# Altium footprint library L-150.PcbLib: 1 footprints
Each footprint in its own frame and in the unit in brackets; x right, y up, seen from the top. Pads: shape width x height; smd on the part's side, far side on the other; paste and mask are expansions set on the pad; w line width, h text height; cw(c..) or ccw(c..) is an arc to the next point about the centre after c.
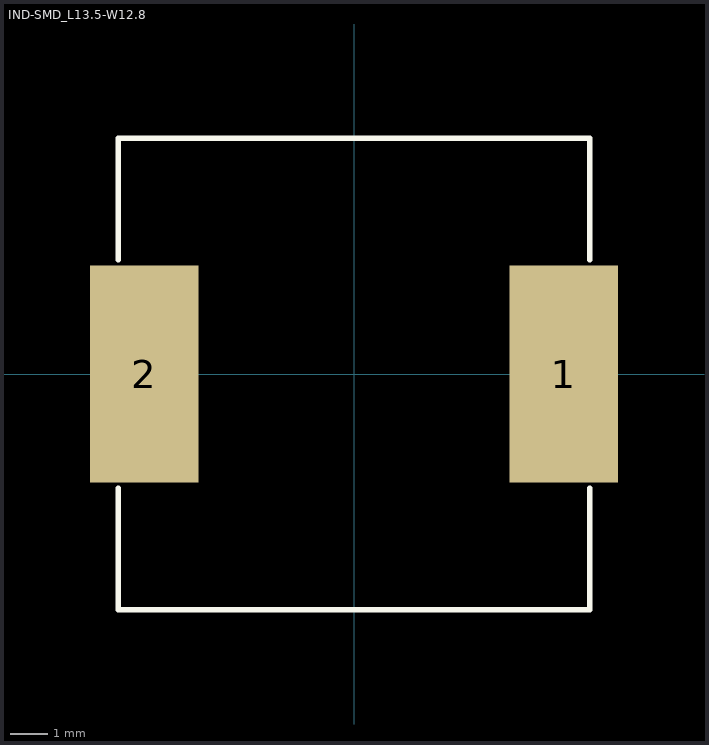
[diagram p0: the footprint, top view; thin cyan lines are the x and y axes]

## IND-SMD_L13.5-W12.8 [mm]
pads (2):
  rect 2.924x5.82 smd: 1(5.628,0) 2(-5.628,0)
Top Overlay:
  lines w0.152: -6.326,-3.062 -6.326,-6.326 6.326,-6.326 6.326,-3.062 ; -6.326,3.062 -6.326,6.326 6.326,6.326 6.326,3.062